# EAGLE library part 610106249121 (library Fidget_Spinner)
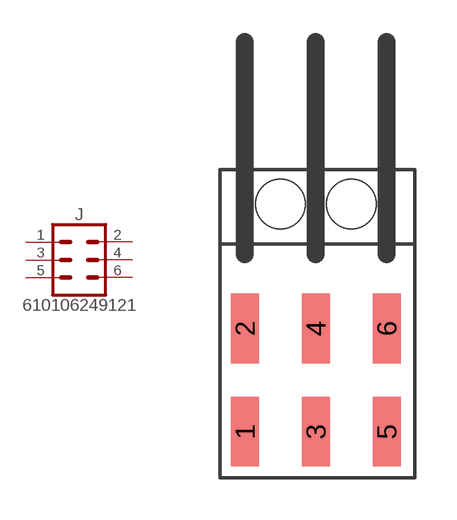
[diagram p1: symbol with the pads of RA-SMT-HDR-2X3; footprint RA-SMT-HDR-2X3]

Designator prefix J

## 610106249121  [RA-SMT-HDR-2X3]
1  1  pas
2  2  pas
3  3  pas
4  4  pas
5  5  pas
6  6  pas

## Footprint RA-SMT-HDR-2X3 (pad centres in mm)
smd 1 x 2.5: 1 0,0; 2 0,3.7; 3 2.54,0; 4 2.54,3.7; 5 5.08,0; 6 5.08,3.7
hole 1.78 at 1.27,8.15
hole 1.78 at 3.81,8.15